# Altium schematic symbol library ReekoLib.SchLib: 45 symbols
Pins are listed as number, name and electrical type; pins without a type are passive.

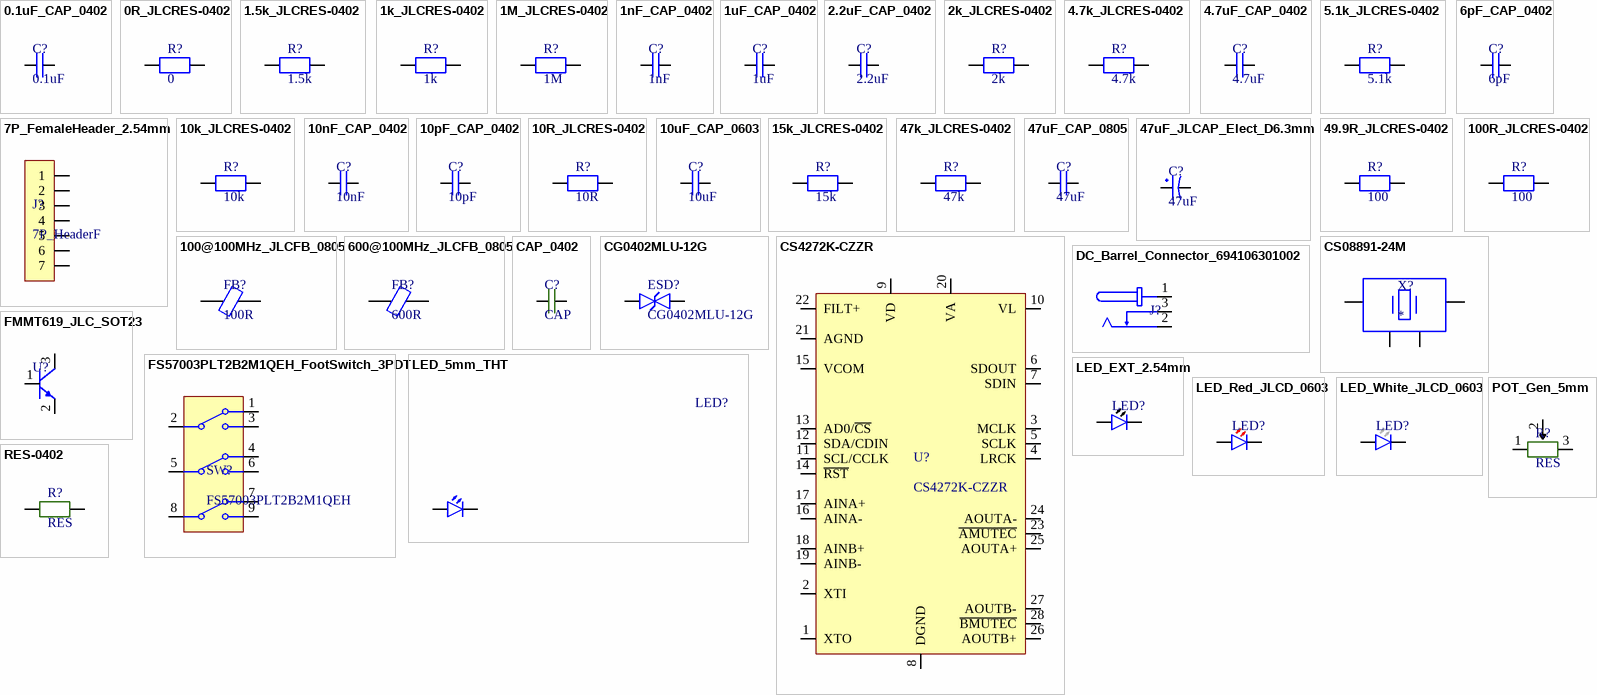
[diagram p0: symbols 0.1uF_CAP_0402 to RES-0402]

## 0.1uF_CAP_0402
designator C?, comment 0.1uF
Capacitor 0402 - 0.1uF +-/10% / 16V; Manufacturer: Samsung Electro-Mechanics; MPN: CL05B104KO5NNNC; LCSC: C1525
footprint CAPC_0402_1005X55N (Chip Capacitor, 2-Leads, Body 1.00x0.50mm, IPC Medium Density)
pins: 1, 2

## 0R_JLCRES-0402
designator R?, comment 0
-55℃~+155℃ 0Ω 50V 62.5mW Thick Film Resistor ±1% ±800ppm/℃ 0402 Chip Resistor - Surface Mount ROHS; Manufacturer: UNI-ROYAL(Uniroyal Elec); MPN: 0402WGF0000TCE; LCSC: C17168
footprint RESC_0402_1005X40N (Chip Resistor, 2-Leads, Body 1.00x0.50mm, IPC Medium Density)
pins: 1, 2

## 1.5k_JLCRES-0402
designator R?, comment 1.5k
Resistor 0402 - 1.5k; Manufacturer: *; MPN: *; LCSC: C25867
footprint RESC_0402_1005X40N (Chip Resistor, 2-Leads, Body 1.00x0.50mm, IPC Medium Density)
pins: 1, 2

## 1k_JLCRES-0402
designator R?, comment 1k
Resistor 0402 - 1k; Manufacturer: UNI-ROYAL(Uniroyal Elec); MPN: 0402WGF1001TCE; LCSC: C11702
footprint RESC_0402_1005X40N (Chip Resistor, 2-Leads, Body 1.00x0.50mm, IPC Medium Density)
pins: 1, 2

## 1M_JLCRES-0402
designator R?, comment 1M
-55℃~+155℃ 1MΩ 50V 62.5mW Thick Film Resistor ±1% ±100ppm/℃ 0402 Chip Resistor - Surface Mount ROHS; Manufacturer: UNI-ROYAL(Uniroyal Elec); MPN: 0402WGF1004TCE; LCSC: C26083
footprint RESC_0402_1005X40N (Chip Resistor, 2-Leads, Body 1.00x0.50mm, IPC Medium Density)
pins: 1, 2

## 1nF_CAP_0402
designator C?, comment 1nF
1nF 50V X7R ±10% 0402 Multilayer Ceramic Capacitors MLCC - SMD/SMT ROHS; Manufacturer: FH (Guangdong Fenghua Advanced Tech); MPN: 0402B102K500NT; LCSC: C1523
footprint CAPC_0402_1005X55N (Chip Capacitor, 2-Leads, Body 1.00x0.50mm, IPC Medium Density)
pins: 1, 2

## 1uF_CAP_0402
designator C?, comment 1uF
Capacitor 0402 - 1uF +-/10% / 25V; Manufacturer: Samsung Electro-Mechanics; MPN: CL05A105KA5NQNC; LCSC: C52923
footprint CAPC_0402_1005X55N (Chip Capacitor, 2-Leads, Body 1.00x0.50mm, IPC Medium Density)
pins: 1, 2

## 2.2uF_CAP_0402
designator C?, comment 2.2uF
Capacitor 0402 - 2.2uF +-/10% / 25V; Manufacturer: Samsung Electro-Mechanics; MPN: CL05A225MQ5NSNC; LCSC: C12530
footprint CAPC_0402_1005X55N (Chip Capacitor, 2-Leads, Body 1.00x0.50mm, IPC Medium Density)
pins: 1, 2

## 2k_JLCRES-0402
designator R?, comment 2k
-55℃~+155℃ 2kΩ 50V 62.5mW Thick Film Resistor ±1% ±100ppm/℃ 0402 Chip Resistor - Surface Mount ROHS; Manufacturer: UNI-ROYAL(Uniroyal Elec); MPN: 0402WGF2001TCE; LCSC: C4109
footprint RESC_0402_1005X40N (Chip Resistor, 2-Leads, Body 1.00x0.50mm, IPC Medium Density)
pins: 1, 2

## 4.7k_JLCRES-0402
designator R?, comment 4.7k
-55℃~+155℃ 4.7kΩ 50V 62.5mW Thick Film Resistor ±1% ±100ppm/℃ 0402 Chip Resistor - Surface Mount ROHS; Manufacturer: UNI-ROYAL(Uniroyal Elec); MPN: 0402WGF4701TCE; LCSC: C25900
footprint RESC_0402_1005X40N (Chip Resistor, 2-Leads, Body 1.00x0.50mm, IPC Medium Density)
pins: 1, 2

## 4.7uF_CAP_0402
designator C?, comment 4.7uF
Capacitor 0402 - 4.7uF +-/20% / 10V; Manufacturer: Samsung Electro-Mechanics; MPN: CL05A475MP5NRNC; LCSC: C23733
footprint CAPC_0402_1005X55N (Chip Capacitor, 2-Leads, Body 1.00x0.50mm, IPC Medium Density)
pins: 1, 2

## 5.1k_JLCRES-0402
designator R?, comment 5.1k
-55℃~+155℃ 5.1kΩ 50V 62.5mW Thick Film Resistor ±1% ±100ppm/℃ 0402 Chip Resistor - Surface Mount ROHS; Manufacturer: UNI-ROYAL(Uniroyal Elec); MPN: 0402WGF5101TCE; LCSC: C25905
footprint RESC_0402_1005X40N (Chip Resistor, 2-Leads, Body 1.00x0.50mm, IPC Medium Density)
pins: 1, 2

## 6pF_CAP_0402
designator C?, comment 6pF
Capacitor 0402 - 6pF +-/10% / 50V - C0G; Manufacturer: FH (Guangdong Fenghua Advanced Tech); MPN: 0402CG6R0C500NT; LCSC: C1575
footprint CAPC_0402_1005X55N (Chip Capacitor, 2-Leads, Body 1.00x0.50mm, IPC Medium Density)
pins: 1, 2

## 7P_FemaleHeader_2.54mm
designator J?, comment 7P_HeaderF
footprint 7P_2.54 (7 Pin, 2.54mm pitch)
pins: 1, 2, 3, 4, 5, 6, 7

## 10k_JLCRES-0402
designator R?, comment 10k
-55℃~+155℃ 10kΩ 50V 62.5mW Thick Film Resistor ±1% ±100ppm/℃ 0402 Chip Resistor - Surface Mount ROHS; Manufacturer: UNI-ROYAL(Uniroyal Elec); MPN: 0402WGF1002TCE; LCSC: C25744
footprint RESC_0402_1005X40N (Chip Resistor, 2-Leads, Body 1.00x0.50mm, IPC Medium Density)
pins: 1, 2

## 10nF_CAP_0402
designator C?, comment 10nF
Capacitor 0402 - 10nF +-/10% / 25V; Manufacturer: Samsung Electro-Mechanics; MPN: CL05B103KB5NNNC; LCSC: C15195
footprint CAPC_0402_1005X55N (Chip Capacitor, 2-Leads, Body 1.00x0.50mm, IPC Medium Density)
pins: 1, 2

## 10pF_CAP_0402
designator C?, comment 10pF
Capacitor 0402 - 10pF +-/10% / 25V - C0G; Manufacturer: Samsung Electro-Mechanics; MPN: CL05C100JB5NNNC; LCSC: C32949
footprint CAPC_0402_1005X55N (Chip Capacitor, 2-Leads, Body 1.00x0.50mm, IPC Medium Density)
pins: 1, 2

## 10R_JLCRES-0402
designator R?, comment 10R
-55℃~+155℃ 10Ω 50V 62.5mW Thick Film Resistor ±1% ±200ppm/℃ 0402 Chip Resistor - Surface Mount ROHS; Manufacturer: UNI-ROYAL(Uniroyal Elec); MPN: 0402WGF100JTCE; LCSC: C25077
footprint RESC_0402_1005X40N (Chip Resistor, 2-Leads, Body 1.00x0.50mm, IPC Medium Density)
pins: 1, 2

## 10uF_CAP_0603
designator C?, comment 10uF
Capacitor 0603 - 0.1uF +-/10% / 25V; Manufacturer: Samsung Electro-Mechanics; MPN: CL10A106MA8NRNC; LCSC: C96446
footprint RESC_0603_1608X55N (Chip Resistor, 2-Leads, Body 1.60x0.80mm, IPC Medium Density)
pins: 1, 2

## 15k_JLCRES-0402
designator R?, comment 15k
-55℃~+155℃ 15kΩ 50V 62.5mW Thick Film Resistor ±1% ±100ppm/℃ 0402 Chip Resistor - Surface Mount ROHS; Manufacturer: UNI-ROYAL(Uniroyal Elec); MPN: 0402WGF1502TCE; LCSC: C25756
footprint RESC_0402_1005X40N (Chip Resistor, 2-Leads, Body 1.00x0.50mm, IPC Medium Density)
pins: 1, 2

## 47k_JLCRES-0402
designator R?, comment 47k
-55℃~+155℃ 47kΩ 50V 62.5mW Thick Film Resistor ±1% ±100ppm/℃ 0402 Chip Resistor - Surface Mount ROHS; Manufacturer: UNI-ROYAL(Uniroyal Elec); MPN: 0402WGF4702TCE; LCSC: C25792
footprint RESC_0402_1005X40N (Chip Resistor, 2-Leads, Body 1.00x0.50mm, IPC Medium Density)
pins: 1, 2

## 47uF_CAP_0805
designator C?, comment 47uF
47uF 6.3V X5R ±20% 0805 Multilayer Ceramic Capacitors MLCC - SMD/SMT ROHS; Manufacturer: Samsung Electro-Mechanics; MPN: CL21A476MQYNNNE; LCSC: C16780
footprint CAPC_0805_2012X145N (Chip Capacitor, 2-Leads, Body 2.00x1.25mm, IPC Medium Density)
pins: 1, 2

## 47uF_JLCAP_Elect_D6.3mm
designator C?, comment 47uF
-55℃~+105℃ 2000hrs@105℃ 35V 47uF 5.4mm 6.3mm ±20% SMD,D6.3xL5.4mm Aluminum Electrolytic Capacitors - SMD ROHS; Manufactuer: Honor Elec; MPN: RVT1V470M0605; LCSC: C3344
footprint SMD,D6.3xL5.4mm
pins: 1, 2

## 49.9R_JLCRES-0402
designator R?, comment 100
Resistor 0402 - 49.9R; Manufacturer: *; MPN: *; LCSC: C25120
footprint RESC_0402_1005X40N (Chip Resistor, 2-Leads, Body 1.00x0.50mm, IPC Medium Density)
pins: 1, 2

## 100@100MHz_JLCFB_0805
designator FB?, comment 100R
-55℃~+155℃ 5.1kΩ 50V 62.5mW Thick Film Resistor ±1% ±100ppm/℃ 0402 Chip Resistor - Surface Mount ROHS; Manufacturer: Sunlord; MPN: GZ2012D101TF; LCSC: C1015
footprint FBC_0805_2012X105N (Ferrite Bead, 2-Leads, Body 2.00x1.25mm, IPC Medium Density)
pins: 1, 2

## 100R_JLCRES-0402
designator R?, comment 100
Resistor 0402 - 100R; Manufacturer: *; MPN: *; LCSC: C25076
footprint RESC_0402_1005X40N (Chip Resistor, 2-Leads, Body 1.00x0.50mm, IPC Medium Density)
pins: 1, 2

## 600@100MHz_JLCFB_0805
designator FB?, comment 600R
-55℃~+125℃ 1 300mΩ 500mA 600Ω@100MHz ±25% 0805 Ferrite Beads ROHS; Manufacturer: Sunlord; MPN: GZ2012D601TF; LCSC: C1017
footprint FBC_0805_2012X105N (Ferrite Bead, 2-Leads, Body 2.00x1.25mm, IPC Medium Density)
pins: 1, 2

## CAP_0402
designator C?, comment CAP
Capacitor 0402 - Generic; Manufacturer: *; MPN: *; LCSC: *
footprint CAPC_0402_1005X55N (Chip Capacitor, 2-Leads, Body 1.00x0.50mm, IPC Medium Density)
pins: 1, 2

## CG0402MLU-12G
designator ESD?
-40℃~+125℃ 0.05pF 1 12V 25V 5nA ESD IEC 61000-4-2 0402 ESD and Surge Protection (TVS/ESD) ROHS; Manufacturer: BOURNS; MPN: CG0402MLU-12G; LCSC: C2655716
footprint DIOC_0402_1005X41N (Chip Diode, 2-Leads, Body 1.00x0.50mm, IPC Medium Density)
pins: 1, 2

## CS4272K-CZZR
designator U?
-10℃~+70℃ 2.37V~5.25V、3.1V~5.25V、4.75V~5.25V 4kHz~192kHz Encoder/decoder On-chip digital gain、Mute control、Master-slave clock negotiation Serial TSSOP-28 Audio Interface ICs ROHS; Manufactuer: Cirrus Logic; MPN: CS4272K-CZZR; LCSC: C17197186
footprint TSOP65P640X120-28N (TSOP, 28-Leads, Body 9.70x3.90mm, Pitch 0.65mm, IPC Medium Density)
pins: 1 XTO, 2 XTI, 3 MCLK, 4 LRCK, 5 SCLK, 6 SDOUT, 7 SDIN, 8 DGND, 9 VD, 10 VL, 11 SCL/CCLK, 12 SDA/CDIN, 13 AD0/~{CS}, 14 ~{RST}, 15 VCOM, 16 AINA-, 17 AINA+, 18 AINB+, 19 AINB-, 20 VA, 21 AGND, 22 FILT+, 23 ~{AMUTEC}, 24 AOUTA-, 25 AOUTA+, 26 AOUTB+, 27 AOUTB-, 28 ~{BMUTEC}

## CS08891-24M
designator X?
CRYSTAL 24.0000MHZ 6PF SMD
footprint 4 SMD - No Lead
pins: 1, 2 (power), 3, 4 (power)

## DC_Barrel_Connector_694106301002
designator J?
Power Barrel Connector Jack 2.10mm ID (0.083"), 5.50mm OD (0.217") Through Hole, Right Angle; Manufacturer: Würth Elektronik; MPN: 694106301002; LCSC: C5441017
footprint DC_Barrel_Connector
pins: 1, 2, 3

## FMMT619_JLC_SOT23
designator U?, comment FMMT619  (value not drawn)
-55℃~+150℃ 1 NPN 100nA 165MHz 200 200mV 2A 50V 625mW 7V NPN SOT-23 Bipolar (BJT) ROHS; Manufacturer: Diodes Incorporated; MPN: FMMT619TA; ComponentLink1Description: New link; ComponentLink1URL: *; LCSC: C15331
footprint SOT95P240X115-3N (SOT23, 3-Leads, Body 2.90x2.40mm, Pitch 0.95mm, IPC Medium Density)
pins: 1, 2, 3

## FS57003PLT2B2M1QEH_FootSwitch_3PDT
designator SW?, comment FS57003PLT2B2M1QEH
SWITCH PUSHBUTTON 3PDT 1A 9V; Manufacturer: E-Switch; MPN: FS57003PLT2B2M1QEH; LCSC: C3315866; ComponentLink1Description: Digikey; ComponentLink1URL: https://www.digikey.co.nz/en/products/detail/e-switch/FS57003PLT2B2M1QEH/6825399?gclsrc=aw.ds&gad_source=1&gad_campaignid=17419957627&gbraid=0AAAAADrbLli30KpXhhNcZ1xqLjHYd0W2W&gclid=CjwKCAjwl97RBhBWEiwAa9rbXUauQOGKi4iSMkdk9_Y1NkU4OmdcWE9QqEc_UI5nVm6lPQILuOQigBoCCyUQAvD_BwE
footprint 3PDT_FootSwitch
pins: 1, 2, 3, 4, 5, 6, 7, 8, 9

## LED_5mm_THT
designator LED?  (value not drawn)
Generic THT 5mm led
footprint LED_THT_5mm
pins: 1, 2

## LED_EXT_2.54mm
designator LED?
External LED. Uses JST footprint 2.54mm pitch; Manufacturer: Hubei KENTO Elec; MPN: KT-0603W; LCSC: C2290
footprint Plugin 2P, 2.5mm (2.5mm pitch THT footprint)
pins: 1, 2

## LED_Red_JLCD_0603
designator LED?
-40℃~+85℃ 1.8V~2.4V 120° 20mA 300mcd 40mW 615nm~630nm 645nm Discrete Diode Red Water Clear 0603 LED Indication - Discrete ROHS; Manufacturer: Hubei KENTO Elec; MPN: KT-0603R; LCSC: C2286
footprint LED_0603_1608
pins: 1, 2

## LED_White_JLCD_0603
designator LED?
-40℃~+85℃ 100mW 120° 2.6V~3.1V 360mcd 5mA Discrete Diode Top-mount White Yellow Lens 0603 LED Indication - Discrete ROHS; Manufacturer: Hubei KENTO Elec; MPN: KT-0603W; LCSC: C2290
footprint LED_0603_1608
pins: 1, 2

## POT_Gen_5mm
designator R?, comment RES
Generic Potentiometer 5mm pitch; Manufacturer: *; MPN: *; LCSC: *
footprint POT_Plugin-3P_5mm (Generic Footprint for Pots)
footprint PTV09A-4020S-B104
pins: 1, 2, 3

## RES-0402
designator R?, comment RES
Resistor 0402 - Generic; Manufacturer: *; MPN: *; LCSC: *
footprint RESC_0402_1005X40N (Chip Resistor, 2-Leads, Body 1.00x0.50mm, IPC Medium Density)
pins: 1, 2

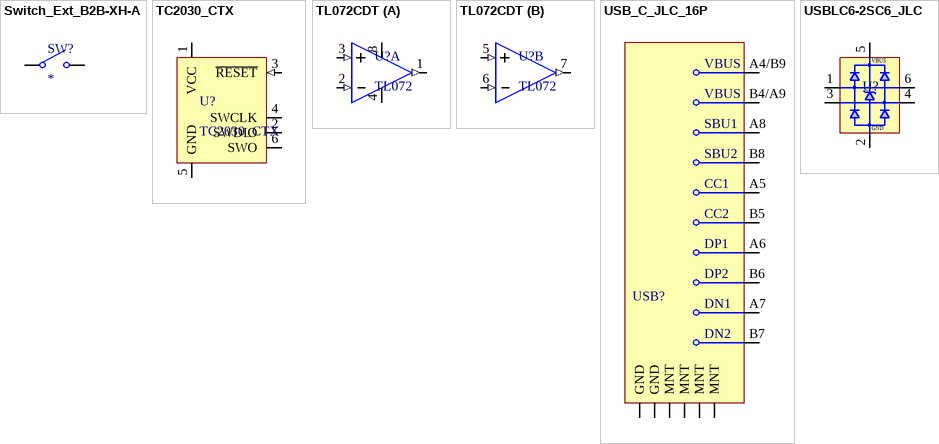
[diagram p1: symbols Switch_Ext_B2B-XH-A to USBLC6-2SC6_JLC]

## Switch_Ext_B2B-XH-A
designator SW?
External Switch footprint for 2 pin 2.5mm pitch connector
footprint Plugin 2P, 2.5mm (2.5mm pitch THT footprint)
pins: 1, 2

## TC2030_CTX
designator U?
footprint TC2030_CTX
pins: 1 VCC (power), 2 SWDIO (io), 3 ~{RESET} (in), 4 SWCLK (io), 5 GND (power), 6 SWO (io)

## TL072CDT
designator U?, comment TL072
0℃~+70℃ 1.4mA 10uV/℃ 15nV/√Hz@1kHz 16V/us 2 20pA 36V 3mV 40mA 4MHz 5pA 6V~36V 86dB SO-8 FET Input Amplifiers ROHS; Manufacturer: STMicroelectronics; MPN: TL072CDT; LCSC: C6961
footprint SO-8 (SOIC, 8-Leads, Body 4.90x3.90mm, Pitch 1.27mm, IPC Medium Density)
part A pins: 1 (out), 2 (in), 3 (in), 4, 8
part B pins: 5 (in), 6 (in), 7 (out)

## USB_C_JLC_16P
designator USB?  (value not drawn)
-30℃~+80℃ 1 10,000 cycles 16P 20V 5A 7.35mm Female Surface Mount, Right Angle Type-C SMD USB Connectors ROHS; Manufacturer: Korean Hroparts Elec; MPN: TYPE-C-31-M-12; LCSC: C165948
footprint USB_C_SMT_16P
pins: A1/B12 GND, A4/B9 VBUS, A5 CC1, A6 DP1, A7 DN1, A8 SBU1, B1/A12 GND, B4/A9 VBUS, B5 CC2, B6 DP2, B7 DN2, B8 SBU2, MNT1 MNT, MNT2 MNT, MNT3 MNT, MNT4 MNT

## USBLC6-2SC6_JLC
designator U?  (value not drawn)
-40℃~+125℃ 150nA 17V 2 3.5pF 5.25V 5A 6V ESD IEC 61000-4-2 Unidirectional SOT-23-6L ESD and Surge Protection (TVS/ESD) ROHS; Manufacturer: STMicroelectronics; MPN: USBLC6-2SC6; LCSC: C7519
footprint SOT23-6L (SOT23, 6-Leads, Body 2.93x2.80mm, Pitch 0.95mm, IPC Medium Density)
pins: 1, 2, 3, 4, 5, 6
text: VBUS; GND